# Altium schematic symbol library SCH - OPAMP - INA241B2IDGKR.Schlib: 1 symbol
Pins are listed as number, name and electrical type; pins without a type are passive.

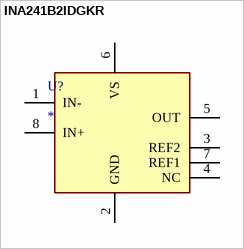
[diagram p0: symbol INA241B2IDGKR]

## INA241B2IDGKR
designator U?
Integrated Circuit
pins: 1 IN-, 2 GND, 3 REF2, 4 NC, 5 OUT, 6 VS, 7 REF1, 8 IN+